# Altium schematic symbol library descret.SchLib: 121 symbols
Pins are listed as number, name and electrical type; pins without a type are passive.

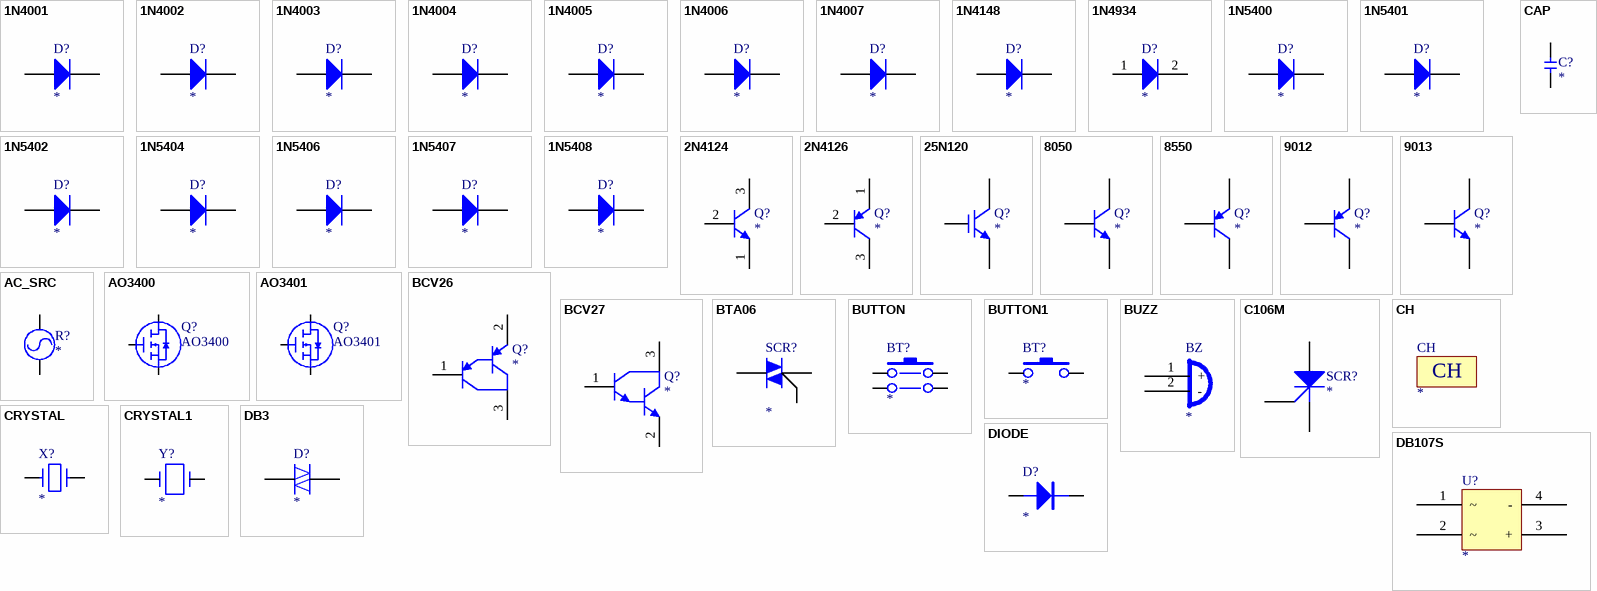
[diagram p0: symbols 1N4001 to DIODE]

## 1N4001
designator D?
1.0 Ampere/50 Voltage General Purpose Rectifier; Text Field6: Published 8-Jun-2000, Modified 11-July-2000: SIM Model Added.
footprint DO-41
simulation model 1N4001 (DIODE)
pins: 1 A, 2 K

## 1N4002
designator D?
1.0 Ampere/100 Voltage General Purpose Rectifier; Text Field6: Published 8-Jun-2000, Modified 11-July-2000: SIM Model Added.
footprint DO-41
simulation model 1N4002 (DIODE)
pins: 1 A, 2 K

## 1N4003
designator D?
1.0 Ampere/200 Voltage General Purpose Rectifier; Text Field6: Published 8-Jun-2000, Modified 11-July-2000: SIM Model Added.
footprint DO-41
simulation model 1N4003 (DIODE)
pins: 1 A, 2 K

## 1N4004
designator D?
1.0 Ampere/400 Voltage General Purpose Rectifier; Text Field6: Published 8-Jun-2000, Modified 11-July-2000: SIM Model Added.
footprint DO-41
simulation model 1N4004 (DIODE)
pins: 1 A, 2 K

## 1N4005
designator D?
1.0 Ampere/600 Voltage General Purpose Rectifier; Text Field6: Published 8-Jun-2000, Modified 11-July-2000: SIM Model Added.
footprint DO-41
simulation model 1N4005 (DIODE)
pins: 1 A, 2 K

## 1N4006
designator D?
1.0 Ampere/800 Voltage General Purpose Rectifier; Text Field6: Published 8-Jun-2000, Modified 11-July-2000: SIM Model Added.
footprint DO-41
simulation model 1N4006 (DIODE)
pins: 1 A, 2 K

## 1N4007
designator D?
1.0 Ampere Voltage General Purpose Rectifier; Text Field6: Published 8-Jun-2000, Modified 11-July-2000: SIM Model Added.
footprint DO-41
simulation model 1N4007 (DIODE)
pins: 1 A, 2 K

## 1N4148
designator D?
High-speed switching; Text Field6: Published 8-Jun-2000, Modified 11-July-2000: SIM Model Added.
footprint DO-35
footprint DO-S1
simulation model 1N4003 (DIODE)
pins: 1 A, 2 K

## 1N4934
designator D?
1.0 Ampere Fast Recovery Rectifier; Text Field6: Published 8-Jun-2000, Modified 11-July-2000: SIM Model Added.
footprint DO-41
simulation model 1N4934 (DIODE)
pins: 1 A, 2 K

## 1N5400
designator D?
3.0 Ampere/50 Voltage General Purpose Rectifier; Text Field6: Published 8-Jun-2000, Modified 11-July-2000: SIM Model Added.
footprint DO-27
simulation model 1N5400 (DIODE)
pins: 1 A, 2 K

## 1N5401
designator D?
3.0 Ampere/100 Voltage General Purpose Rectifier; Text Field6: Published 8-Jun-2000, Modified 11-July-2000: SIM Model Added.
footprint DO-27
simulation model 1N5400 (DIODE)
pins: 1 A, 2 K

## 1N5402
designator D?
3.0 Ampere/200 Voltage General Purpose Rectifier; Text Field6: Published 8-Jun-2000, Modified 11-July-2000: SIM Model Added.
footprint DO-27
simulation model 1N5400 (DIODE)
pins: 1 A, 2 K

## 1N5404
designator D?
3.0 Ampere/400 Voltage General Purpose Rectifier; Text Field6: Published 8-Jun-2000, Modified 11-July-2000: SIM Model Added.
footprint DO-27
simulation model 1N5400 (DIODE)
pins: 1 A, 2 K

## 1N5406
designator D?
3.0 Ampere/600 Voltage General Purpose Rectifier; Text Field6: Published 8-Jun-2000, Modified 11-July-2000: SIM Model Added.
footprint DO-27
simulation model 1N5400 (DIODE)
pins: 1 A, 2 K

## 1N5407
designator D?
3.0 Ampere/800 Voltage General Purpose Rectifier; Text Field6: Published 8-Jun-2000, Modified 11-July-2000: SIM Model Added.
footprint DO-27
simulation model 1N5400 (DIODE)
pins: 1 A, 2 K

## 1N5408
designator D?
3.0 Ampere/1000 Voltage General Purpose Rectifier; Text Field6: Published 8-Jun-2000, Modified 11-July-2000: SIM Model Added.
footprint DO-27
footprint DO-214AB
simulation model 1N5400 (DIODE)
pins: 1 A, 2 K

## 2N4124
designator Q?
NPN General Purpose Amplifier; Text Field6: Published 8-Jun-2000, Modified 11-July-2000: SIM Model Added.
footprint BCY-W3/D4.7
simulation model 2N4124 (NPN)
pins: 1 E, 2 B, 3 C

## 2N4126
designator Q?
PNP General Purpose Amplifier; Text Field6: Published 8-Jun-2000, Modified 11-July-2000: SIM Model Added.
footprint BCY-W3/D4.7
simulation model 2N4126 (PNP)
pins: 1 E, 2 B, 3 C

## 25N120
designator Q?
25A/1200V NPT Trench IGBT
footprint TO-3P
pins: 1 B, 2 C, 3 E

## 8050
designator Q?
footprint SOT-23
pins: 1 B, 2 E, 3 C

## 8550
designator Q?
footprint SOT-23
pins: 1 B, 2 E, 3 C

## 9012
designator Q?
footprint TO-29A
footprint TO-29B
footprint TO-29C
pins: 1 E, 2 B, 3 C

## 9013
designator Q?
footprint TO-29A
footprint TO-29B
footprint TO-29C
footprint SOT-23
pins: 1 E, 2 B, 3 C

## AC_SRC
designator R?
footprint VR-1
footprint VR-2
footprint VR-3
footprint VR-4
pins: 1, 3

## AO3400
designator Q?
30V/5.8A N沟道
footprint SOT-23
pins: 1 G, 2 S, 3 D

## AO3401
designator Q?
30V/5.8A P沟道
footprint SOT-23
pins: 1 G, 2 S, 3 D

## BCV26
designator Q?
PNP Darlington Transistor; Text Field6: Published 8-Jun-2000, Modified 11-July-2000: SIM Model Added.
footprint SO-G3/Y1
simulation model BCV26 (SUBCKT)
pins: 1 B, 2 E, 3 C

## BCV27
designator Q?
NPN Darlington Transistor; Text Field6: Published 8-Jun-2000, Modified 11-July-2000: SIM Model Added.
footprint SO-G3/Y1
simulation model BCV27 (SUBCKT)
pins: 1 B, 2 E, 3 C

## BTA06
designator SCR?
footprint TO-220
pins: 1, 2, 3

## BUTTON
designator BT?
footprint SB3-1A
footprint SB3-1B
footprint BT0606
footprint BT0505
pins: 1, 2, 3, 4

## BUTTON1
designator BT?
footprint BT0603
footprint SB3-1B
pins: 1, 2

## BUZZ
designator BZ
footprint RB3A
pins: 1 +, 2 -

## C106M
designator SCR?
4.0 Ampere/600 Voltage SCR; Text Field6: Published 8-Jun-2000, Modified 11-July-2000: SIM Model Added.
footprint TO126V
footprint TO126H
simulation model 1N4001 (DIODE)
pins: 1, 2, 3

## CAP
designator C?
footprint 0805
footprint C-1210
footprint RAD-0.2
footprint 0603
footprint 1206
pins: 1, 2

## CH
designator CH
footprint CH1
footprint CH2
footprint CH3

## CRYSTAL
designator X?
footprint XTAL1
footprint 0805XL
footprint 1305XL
pins: 1, 2

## CRYSTAL1
designator Y?
CRYSTAL; Text Field1: 20; Text Field2: 20
footprint CRYSTAL4025
footprint CRYSTAL7050
pins: 1, 2 GND (power) hidden to GND, 3, 4 GND (power) hidden to GND

## DB3
designator D?
footprint DO35
pins: 1, 2

## DB107S
designator U?
footprint DB-S
pins: 1 ~, 2 ~ (power), 3 +, 4 -

## DIODE
designator D?
footprint 1206D
footprint DIODE-0.2
pins: 1 A, 2 K

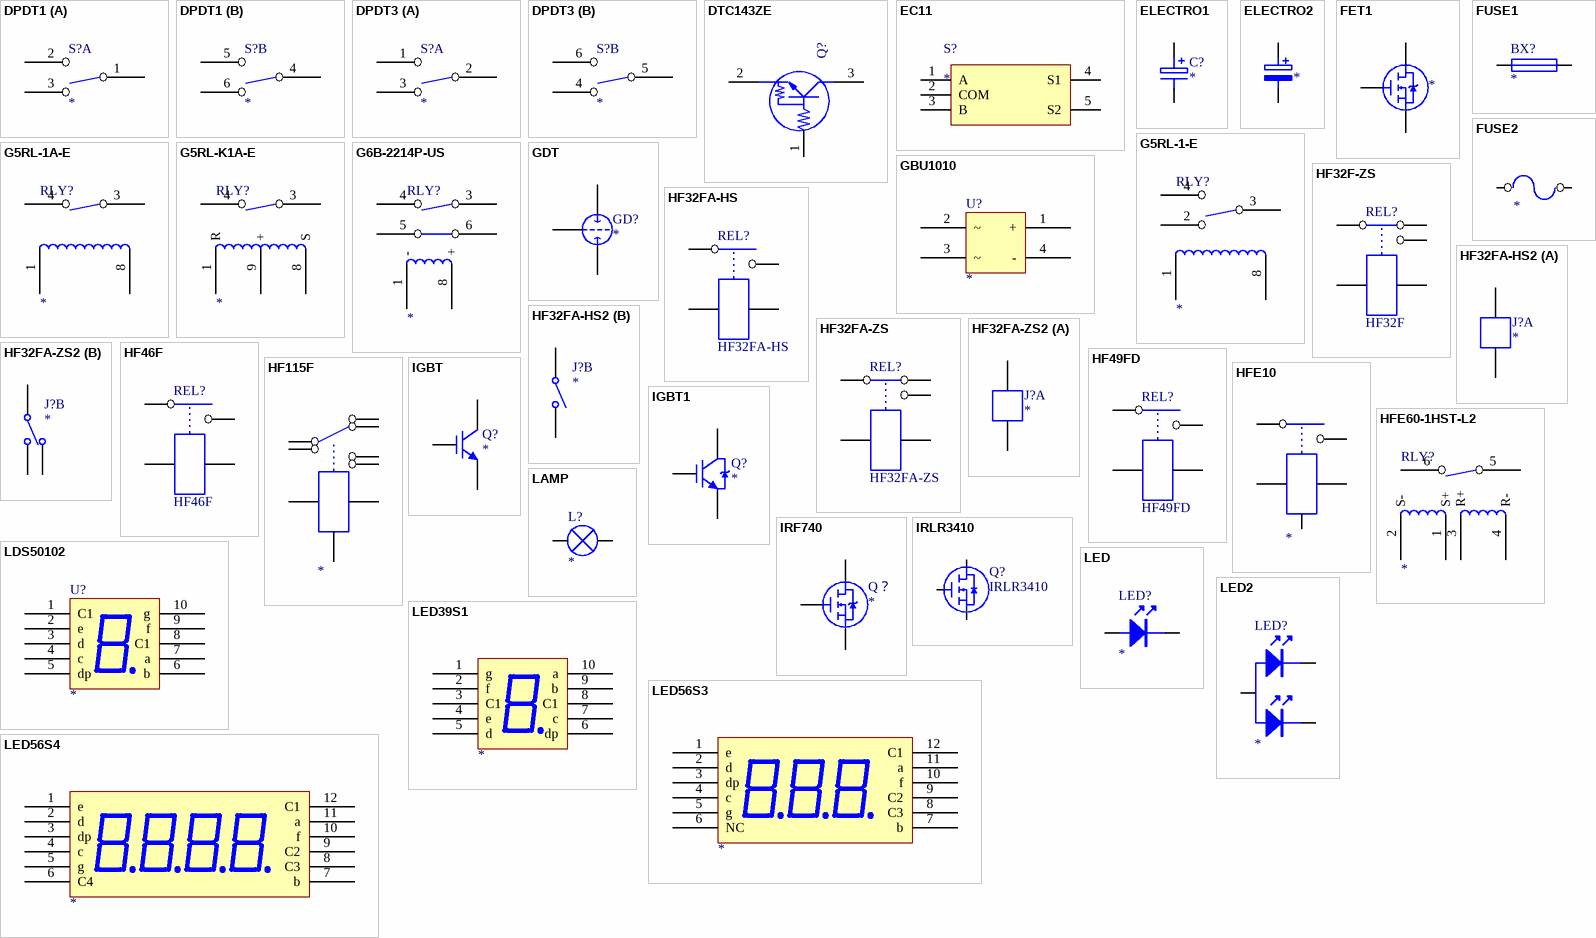
[diagram p1: symbols DPDT1 to LED56S4]

## DPDT1
designator S?
8*8 self lock double-pole double throw
footprint SW-1
part A pins: 1, 2, 3
part B pins: 4, 5, 6

## DPDT3
designator S?
7*7 self lock double-pole double throw
footprint SW-3
part A pins: 1, 2, 3
part B pins: 4, 5, 6

## DTC143ZE
designator Q?  (value not drawn)
Manufacturer #1: ROHM; VALUE: DTC043ZE; PCB DECAL: EMT3
footprint SOT-23
pins: 1, 2, 3

## EC11
designator S?
footprint EC11E
pins: 1 A , 2 COM, 3 B, 4 S1, 5 S2, 6 GND (power) hidden to GND, 7 GND (power) hidden to GND

## ELECTRO1
designator C?
footprint RB-.1/.2
footprint 1206T
footprint 3528T
footprint 7243T
footprint RB-.12/.32
pins: 1, 2

## ELECTRO2
designator ?
pins: 1, 2

## FET1
designator ?
pins: 1 G, 2 D, 3 S

## FUSE1
designator BX?
footprint 1812
footprint FUSE-1
footprint F1808
pins: 1, 2

## FUSE2
designator ?
pins: 1, 2

## G5RL-1-E
designator RLY?
footprint G5RL-E
pins: 1, 2, 3, 4, 5, 6, 7, 8

## G5RL-1A-E
designator RLY?
footprint G5RL-E
pins: 1, 3, 4, 5, 6, 8

## G5RL-K1A-E
designator RLY?
footprint G5RL-AE
pins: 1 R, 3, 4, 5, 6, 8 S, 9 +

## G6B-2214P-US
designator RLY?
Omron relay
footprint G6B-2
pins: 1 -, 3, 4, 5, 6, 8 +

## GBU1010
designator U?
footprint GBU1010
pins: 1 +, 2 ~, 3 ~ (power), 4 -

## GDT
designator GD?
footprint 3RA-5SS
pins: 1, 2, 3

## HF32F-ZS
designator REL?, comment HF32F
footprint HF32F-ZS
pins: 1, 2, 3, 4, 5

## HF32FA-HS
designator REL?
footprint HF32FA-HSL2
pins: 1, 2, 3, 4

## HF32FA-HS2
designator J?
footprint HF32FA-HS2
part A pins: 1, 2
part B pins: 3, 4

## HF32FA-ZS
designator REL?
footprint HF32FA-ZS2
pins: 1, 2, 3, 4, 5

## HF32FA-ZS2
designator J?
footprint HF32FA-ZS2
part A pins: 1, 2
part B pins: 3, 4, 5

## HF46F
designator REL?
footprint HF46F-HS1
pins: 1, 2, 3, 4

## HF49FD
designator REL?
pins: 1, 2, 3, 4

## HF115F
designator ?
pins: 1, 2, 3, 4, 5, 6, 7, 8, 9

## HFE10
designator ?
footprint G6D
pins: 1, 2, 3, 4, 5 +

## HFE60-1HST-L2
designator RLY?
footprint HFE60-1H-L2
pins: 1 S+, 2 S-, 3 R+, 4 R-, 5, 6

## IGBT
designator Q?
footprint TO-3P
pins: 1 B, 2 C, 3 E

## IGBT1
designator Q?
footprint TO-3P
pins: 1 B, 2 C, 3 E

## IRF740
designator Q？
footprint TO-220
pins: 1 G, 2 D, 3 S

## IRLR3410
designator Q?
100V/17A 105mOhm N沟道
footprint TO252
pins: 1 G, 2 D, 3 S

## LAMP
designator L?
pins: 1, 2

## LDS50102
designator U?
footprint LDS50102
pins: 1 C1, 2 e, 3 d, 4 c, 5 dp, 6 b, 7 a, 8 C1, 9 f, 10 g

## LED
designator LED?
footprint 0805LED
footprint 1206
footprint RB-.1/.2
pins: 1, 2

## LED2
designator LED?
footprint LED2
pins: 1, 2, 3

## LED39S1
designator ?
footprint LED56S3
pins: 1 g, 2 f, 3 C1, 4 e, 5 d, 6 dp, 7 c, 8 C1, 9 b, 10 a

## LED56S3
designator ?
footprint LED56S3
pins: 1 e, 2 d, 3 dp, 4 c, 5 g, 6 NC, 7 b, 8 C3, 9 C2, 10 f, 11 a, 12 C1

## LED56S4
designator ?
footprint LED56S4 (0.56寸4位LED数码光)
pins: 1 e, 2 d, 3 dp, 4 c, 5 g, 6 C4, 7 b, 8 C3, 9 C2, 10 f, 11 a, 12 C1

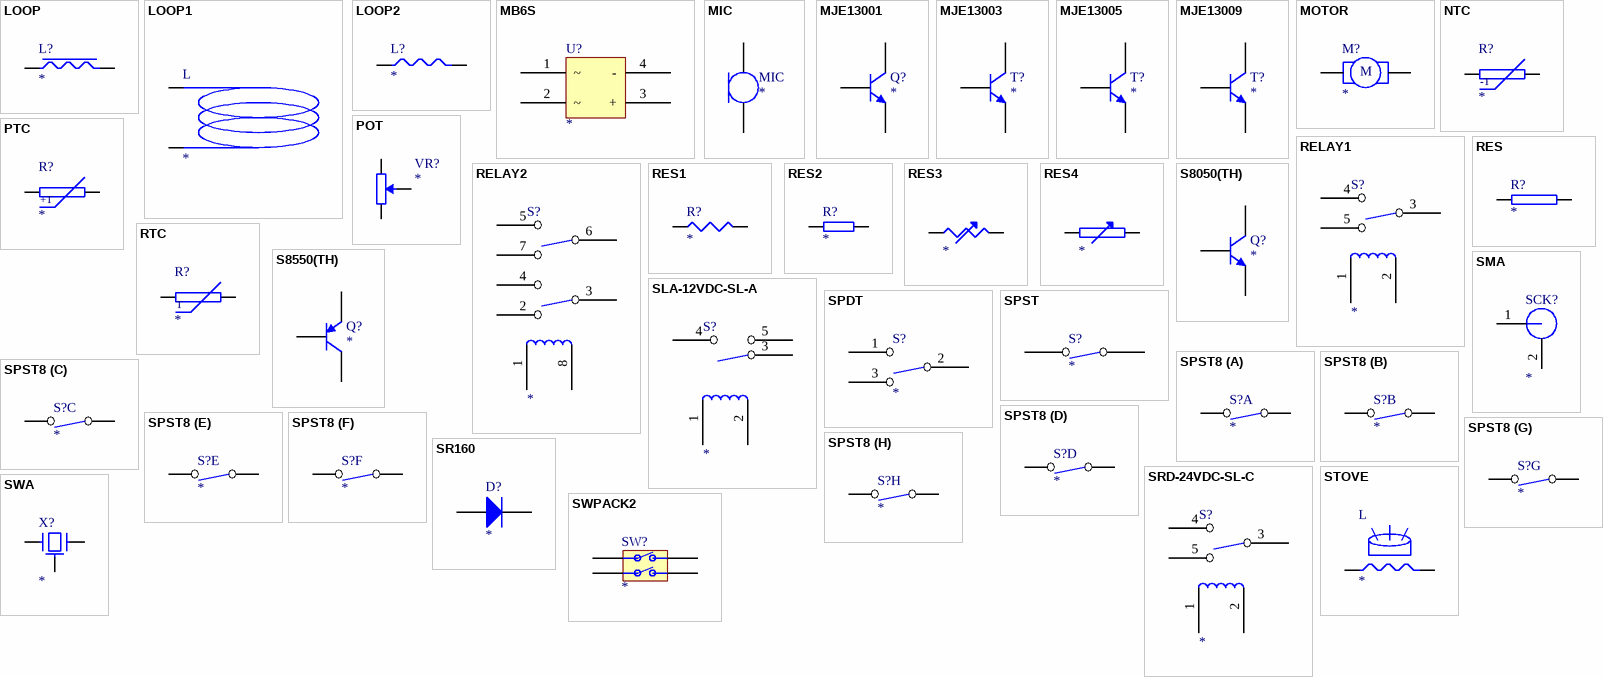
[diagram p2: symbols LOOP to SWPACK2]

## LOOP
designator L?
footprint 0805
footprint CC-DO1608C
footprint 1210
pins: 1, 2

## LOOP1
designator L
footprint 1210
footprint CC-DO1608C
pins: 1, 2

## LOOP2
designator L?
footprint 0805
footprint CC-DO1608C
footprint 1210
pins: 1, 2

## MB6S
designator U?
footprint MBS-1
pins: 1 ~, 2 ~ (power), 3 +, 4 -

## MIC
designator MIC
pins: 1, 2

## MJE13001
designator Q?
0.2A/600V NPN Transistor
footprint TO-92C
footprint TO-92B
footprint TO-92A
pins: 1 B, 2 E, 3 C

## MJE13003
designator T?
footprint TO126V
pins: 1 B, 2 C, 3 E

## MJE13005
designator T?
footprint TO-220
footprint TO-220V
pins: 1 B, 2 C, 3 E

## MJE13009
designator T?
footprint TO-220
footprint TO-220V
pins: 1 B, 2 C, 3 E

## MOTOR
designator M?
pins: 1, 2
text: M

## NTC
designator R?
footprint AXIAL-0.4
footprint R-0603
pins: 1, 2
text: -T

## POT
designator VR?
footprint VR-1
footprint VR-2
footprint VR-3
footprint VR-4
pins: 1, 2, 3

## PTC
designator R?
footprint AXIAL-0.4
footprint 1206
pins: 1, 2
text: +T

## RELAY1
designator S?
footprint SRA
pins: 1, 2, 3, 4, 5

## RELAY2
designator S?
footprint HFD4S
pins: 1, 2, 3, 4, 5, 6, 7, 8

## RES
designator R?
footprint AXIAL-0.4
footprint 0805
pins: 1, 2

## RES1
designator R?
footprint 0805
footprint AXIAL-0.4
pins: 1, 2

## RES2
designator R?
footprint 0603
footprint 0805
footprint AXIAL-0.4
pins: 1, 2

## RES3
designator ?
pins: 1, 2

## RES4
designator ?
pins: 1, 2

## RTC
designator R?
footprint AXIAL-0.4
footprint R-0603
pins: 1, 2
text: T

## S8050(TH)
designator Q?
1.5A/40V NPN Transistor
footprint TO-92C
footprint TO-92B
footprint TO-92A
pins: 1 E, 2 B, 3 C

## S8550(TH)
designator Q?
0.5A/40V PNP Transistor
footprint TO-92C
footprint TO-92B
footprint TO-92A
pins: 1 E, 2 B, 3 C

## SLA-12VDC-SL-A
designator S?
30A/240VAC relay
footprint SLA-5P
pins: 1, 2, 3, 4, 5

## SMA
designator SCK?
footprint SMA-1
pins: 1, 2

## SPDT
designator S?
footprint SW-1
pins: 1, 2, 3

## SPST
designator S?
footprint SW-1
pins: 1, 2

## SPST8
designator S?
footprint DIP16-SMT
footprint DIP-16
part A pins: 1, 16
part B pins: 2, 15
part C pins: 3, 14
part D pins: 4, 13
part E pins: 5, 12
part F pins: 6, 11
part G pins: 7, 10
part H pins: 8, 9

## SR160
designator D?
1.0 Ampere/60 Voltage Schottky Barrier Rectifier; Text Field6: Published 8-Jun-2000, Modified 11-July-2000: SIM Model Added.
footprint DO-41
simulation model 1N4007 (DIODE)
pins: 1 A, 2 K

## SRD-24VDC-SL-C
designator S?
10A/250VAC relay
footprint SRD
pins: 1, 2, 3, 4, 5

## STOVE
designator L
footprint 1210
footprint CC-DO1608C
pins: 1, 2

## SWA
designator X?
footprint XTAL1
footprint 0805XL
footprint 1305XL
pins: 1, 2, 3

## SWPACK2
designator SW?
footprint DIP4-SMT
footprint DIP-4
pins: 1, 2, 3, 4

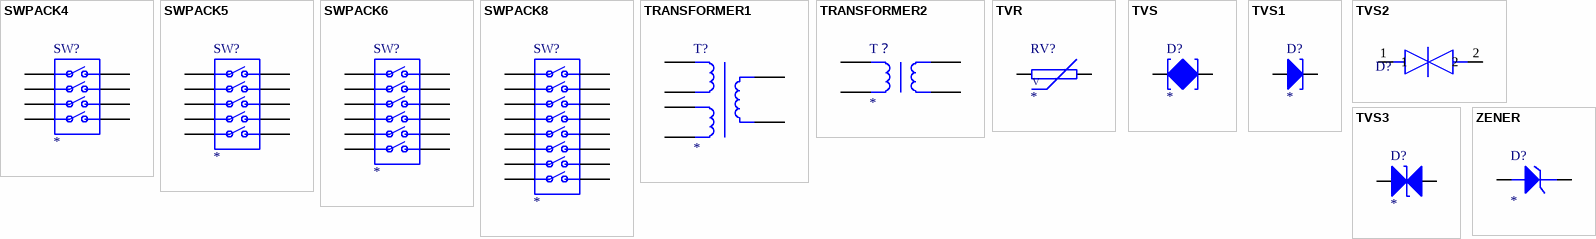
[diagram p3: symbols SWPACK4 to ZENER]

## SWPACK4
designator SW?
footprint DIP-8
pins: 1, 2, 3, 4, 5, 6, 7, 8

## SWPACK5
designator SW?
footprint DIP10
pins: 1, 2, 3, 4, 5, 6, 7, 8, 9, 10

## SWPACK6
designator SW?
footprint DIP-12
pins: 1, 2, 3, 4, 5, 6, 7, 8, 9, 10, 11, 12

## SWPACK8
designator SW?
pins: 1, 2, 3, 4, 5, 6, 7, 8, 9, 10, 11, 12, 13, 14, 15, 16

## TRANSFORMER1
designator T?
pins: 1, 2, 3, 4, 5, 6

## TRANSFORMER2
designator T？
pins: 1, 2, 3, 4

## TVR
designator RV?
footprint TVR10D
pins: 1, 2
text: V

## TVS
designator D?
1.0 Ampere/50 Voltage General Purpose Rectifier; Text Field6: Published 8-Jun-2000, Modified 11-July-2000: SIM Model Added.
footprint DO-41
simulation model 1N4001 (DIODE)
pins: 1, 2

## TVS1
designator D?
1.0 Ampere/50 Voltage General Purpose Rectifier; Text Field6: Published 8-Jun-2000, Modified 11-July-2000: SIM Model Added.
footprint DO-41
simulation model 1N4001 (DIODE)
pins: 1, 2

## TVS2
designator D?  (value not drawn)
Part Description: ESD保护器 0402; PCB DECAL: SOD-923
footprint SOD-923
pins: 1, 2

## TVS3
designator D?
1.0 Ampere/50 Voltage General Purpose Rectifier; Text Field6: Published 8-Jun-2000, Modified 11-July-2000: SIM Model Added.
footprint SOD-323
footprint SOD-923
footprint SOD-323
pins: 1, 2

## ZENER
designator D?
Zener Diode
footprint DO-35Z
footprint DO-41Z
pins: 1 A, 2 K